# Altium schematic symbol library mosfet.SchLib: 2 symbols
Pins are listed as number, name and electrical type; pins without a type are passive.

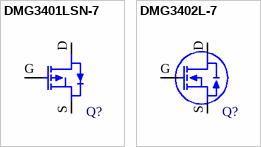
[diagram p0: symbols DMG3401LSN-7 to DMG3402L-7]

## DMG3401LSN-7
designator Q?  (value not drawn)
P-CHANNEL ENHANCEMENT MODE MOSFET / RDS(ON) = 85mΩ @ VGS = -2.5V -> ID -2.7A / V(BR)DDS 30V; Manufacturer: Diodes Incorporated; Manufacturer Part Number: DMG3401LSN-7; Category: Transistor mosfet; Datasheet: https://www.diodes.com/assets/Datasheets/DMG3401LSN.pdf; Temperature Max: 150; Temperature Min: -55
footprint DMG3401LSN-7
pins: D, G, S

## DMG3402L-7
designator Q?  (value not drawn)
N-CHANNEL ENHANCEMENT MODE FIELD EFFECT TRANSISTOR / 85mΩ @ VGS = 2.5V -> ID 2A / V(BR)DDS 30V /; Manufacturer: Diodes Incorporated; Manufacturer Part Number: DMG3402L-7; Category: Transistor mosfet; Datasheet: https://www.diodes.com/assets/Datasheets/DMG3402L.pdf; Temperature Max: 150; Temperature Min: -55
footprint DMG3402L-7
pins: D, G, S